# Altium footprint library Other.PcbLib: 3 footprints
Each footprint in its own frame and in the unit in brackets; x right, y up, seen from the top. Pads: shape width x height; smd on the part's side, far side on the other; paste and mask are expansions set on the pad; w line width, h text height; cw(c..) or ccw(c..) is an arc to the next point about the centre after c.
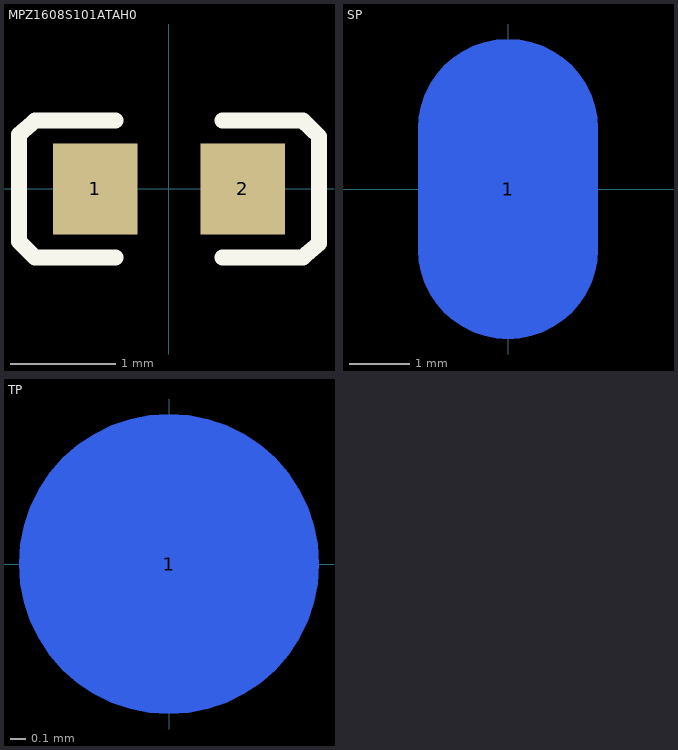
[diagram p0: the footprints below, top view; thin cyan lines are the x and y axes]

## MPZ1608S101ATAH0 [mm]
pads (2):
  rect 0.8x0.864 smd paste-100 mask+0.051: 1(-0.7,0) 2(0.7,0)
Top Overlay:
  lines w0.152: -1.272,-0.65 -0.51,-0.65 ; -1.272,0.65 -0.51,0.65 ; -1.27,-0.651 -1.424,-0.499 -1.424,0.517 -1.27,0.65 ; 0.51,-0.65 1.272,-0.65 ; 0.51,0.65 1.272,0.65 ; 1.27,-0.65 1.424,-0.518 1.424,0.499 1.27,0.65
Top Paste:
  region: 0.264,0.154 0.264,-0.122 0.538,-0.416 1.042,-0.416 1.106,-0.352 1.106,0.384 1.042,0.448 0.538,0.448
  region: -0.252,0.143 -0.252,-0.134 -0.526,-0.427 -1.029,-0.427 -1.093,-0.363 -1.093,0.373 -1.029,0.437 -0.526,0.437
Mechanical 15:
  lines w0.003: 0.799,0.044 0.8,0.044

## SP [mm]
pads (1):
  oval 3x5 smd far side paste+0 mask+0.051: 1(0,0)

## TP [mm]
pads (1):
  round 2 smd far side paste+0 mask+0.051: 1(0,0)